# Altium schematic symbol library ATTINY13A-SU.SchLib: 1 symbol
Pins are listed as number, name and electrical type; pins without a type are passive.

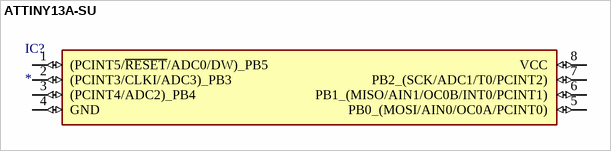
[diagram p0: symbol ATTINY13A-SU]

## ATTINY13A-SU
designator IC?
AVR AVRÂ® ATtiny Microcontroller IC 8-Bit 20MHz 1KB (512 x 16) FLASH 8-SOIC; MF: Microchip; MP: ATTINY13A-SU; SnapEDA_Link: https://www.snapeda.com/parts/ATTINY13A-SU/Microchip/view-part/?ref=snap; Package: SOIC-8 Microchip; Value: *; Check_prices: https://www.snapeda.com/parts/ATTINY13A-SU/Microchip/view-part/?ref=eda
footprint SOIC127P798X216-8N
pins: 1 (PCINT5/~{RESET}/ADC0/DW)_PB5 (io), 2 (PCINT3/CLKI/ADC3)_PB3 (io), 3 (PCINT4/ADC2)_PB4 (io), 4 GND (io), 5 PB0_(MOSI/AIN0/OC0A/PCINT0) (io), 6 PB1_(MISO/AIN1/OC0B/INT0/PCINT1) (io), 7 PB2_(SCK/ADC1/T0/PCINT2) (io), 8 VCC (io)